# Altium schematic symbol library Sound Speaker.SchLib: 1 symbol
Pins are listed as number, name and electrical type; pins without a type are passive.

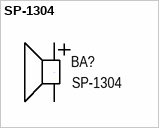
[diagram p0: symbol SP-1304]

## SP-1304
designator BA?
Speaker 32Ohm 10mW THW; Manufacturer: Soberton; Component: Audio Speaker; Group: Signal; Impedance: 32Ohms; Power: 300mW; Frequency Range: 300Hz - 8kHz; Package: Wires; Part name: SP-1304; Operating temperature: -20°C +60°C; Mounting type: Through hole wires; Dimension: 14.00mm x 14.00mm; Height: 0.00mm; Technology: Magnetic
footprint THWN (Speaker wires)
pins: 1 +, 2 -